# EAGLE library part FRIENDSHIP (library hgg)
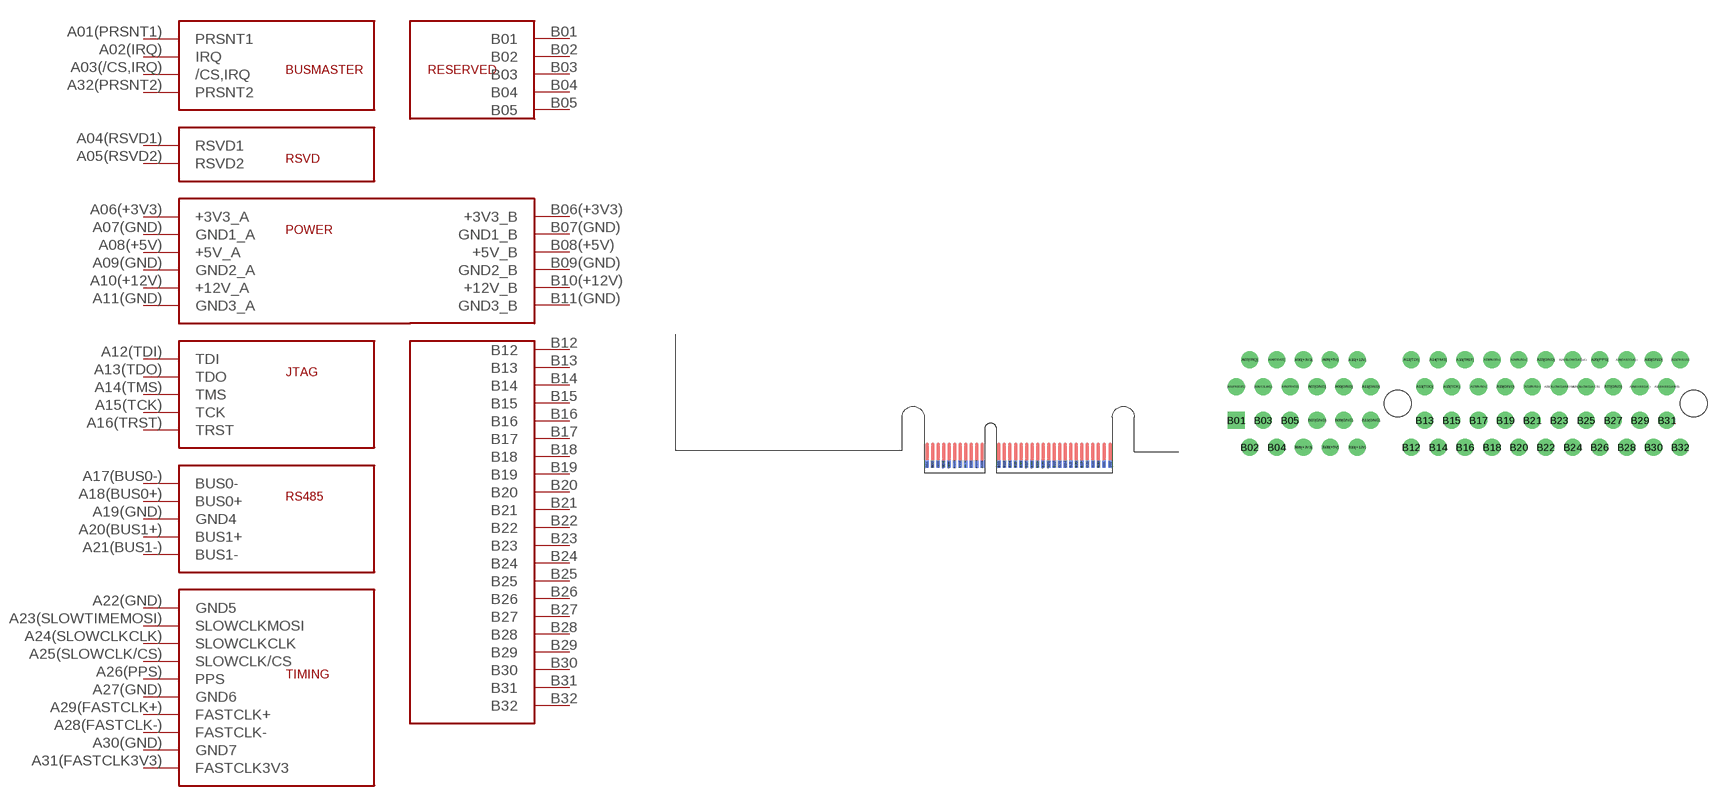
[diagram p0: symbol with the pads of FRIENDSHIP_EDGE_CONNECTOR; footprints FRIENDSHIP_EDGE_CONNECTOR, FRIENDSHIP_SLOT]

Designator prefix -

## FRIENDSHIPCONNECTOR  [FRIENDSHIP_EDGE_CONNECTOR]
A01(PRSNT1)  PRSNT1
A02(IRQ)  IRQ
A03(/CS,IRQ)  /CS,IRQ
A04(RSVD1)  RSVD1
A05(RSVD2)  RSVD2
A06(+3V3)  +3V3_A
A07(GND)  GND1_A
A08(+5V)  +5V_A
A09(GND)  GND2_A
A10(+12V)  +12V_A
A11(GND)  GND3_A
A12(TDI)  TDI
A13(TDO)  TDO
A14(TMS)  TMS
A15(TCK)  TCK
A16(TRST)  TRST
A17(BUS0-)  BUS0-
A18(BUS0+)  BUS0+
A19(GND)  GND4
A20(BUS1+)  BUS1+
A21(BUS1-)  BUS1-
A22(GND)  GND5
A23(SLOWTIMEMOSI)  SLOWCLKMOSI
A24(SLOWCLKCLK)  SLOWCLKCLK
A25(SLOWCLK/CS)  SLOWCLK/CS
A26(PPS)  PPS
A27(GND)  GND6
A28(FASTCLK-)  FASTCLK-
A29(FASTCLK+)  FASTCLK+
A30(GND)  GND7
A31(FASTCLK3V3)  FASTCLK3V3
A32(PRSNT2)  PRSNT2
B01  B01
B02  B02
B03  B03
B04  B04
B05  B05
B06(+3V3)  +3V3_B
B07(GND)  GND1_B
B08(+5V)  +5V_B
B09(GND)  GND2_B
B10(+12V)  +12V_B
B11(GND)  GND3_B
B12  B12
B13  B13
B14  B14
B15  B15
B16  B16
B17  B17
B18  B18
B19  B19
B20  B20
B21  B21
B22  B22
B23  B23
B24  B24
B25  B25
B26  B26
B27  B27
B28  B28
B29  B29
B30  B30
B31  B31
B32  B32

## FRIENDSHIPSLOT  [FRIENDSHIP_SLOT]
A01(PRSNT1)  PRSNT1
A02(IRQ)  IRQ
A03(/CS,IRQ)  /CS,IRQ
A04(RSVD1)  RSVD1
A05(RSVD2)  RSVD2
A06(+3V3)  +3V3_A
A07(GND)  GND7
A08(+5V)  +5V_A
A09(GND)  GND6
A10(+12V)  +12V_A
A11(GND)  GND5
A12(TDI)  TDI
A13(TDO)  TDO
A14(TMS)  TMS
A15(TCK)  TCK
A16(TRST)  TRST
A17(BUS0-)  BUS0-
A18(BUS0+)  BUS0+
A19(GND)  GND1_A
A20(BUS1+)  BUS1+
A21(BUS1-)  BUS1-
A22(GND)  GND2_A
A23(SLOWCLKMOSI)  SLOWCLKMOSI
A24(SLOWCLKCLK)  SLOWCLKCLK
A25(SLOWCLK/CS)  SLOWCLK/CS
A26(PPS)  PPS
A27(GND)  GND3_A
A28(FASTCLK+)  FASTCLK+
A29(FASTCLK-)  FASTCLK-
A30(GND)  GND4
A31(FASTCLK3V3)  FASTCLK3V3
A32(PRSNT2)  PRSNT2
B01  B01
B02  B02
B03  B03
B04  B04
B05  B05
B06(+3V3)  +3V3_B
B07(GND)  GND1_B
B08(+5V)  +5V_B
B09(GND)  GND2_B
B10(+12V)  +12V_B
B11(GND)  GND3_B
B12  B12
B13  B13
B14  B14
B15  B15
B16  B16
B17  B17
B18  B18
B19  B19
B20  B20
B21  B21
B22  B22
B23  B23
B24  B24
B25  B25
B26  B26
B27  B27
B28  B28
B29  B29
B30  B30
B31  B31
B32  B32

## Footprint FRIENDSHIP_EDGE_CONNECTOR (pad centres in mm)
smd 0.66 x 1.27: A01(PRSNT1) 45.5,-14.5; A02(IRQ) 46.5,-14.5; A03(/CS,IRQ) 47.5,-14.5; A04(RSVD1) 48.5,-14.5; A05(RSVD2) 49.5,-14.5; A06(+3V3) 50.5,-14.5; A07(GND) 51.5,-14.5; A08(+5V) 52.5,-14.5; A09(GND) 53.5,-14.5; A10(+12V) 54.5,-14.5; A11(GND) 55.5,-14.5; A12(TDI) 58.5,-14.5; A13(TDO) 59.5,-14.5; A14(TMS) 60.5,-14.5; A15(TCK) 61.5,-14.5; A16(TRST) 62.5,-14.5; A17(BUS0-) 63.5,-14.5; A18(BUS0+) 64.5,-14.5; A19(GND) 65.5,-14.5; A20(BUS1+) 66.5,-14.5; A21(BUS1-) 67.5,-14.5; A22(GND) 68.5,-14.5; A23(SLOWTIMEMOSI) 69.5,-14.5; A24(SLOWCLKCLK) 70.5,-14.5; A25(SLOWCLK/CS) 71.5,-14.5; A26(PPS) 72.5,-14.5; A27(GND) 73.5,-14.5; A28(FASTCLK-) 74.5,-14.5; A29(FASTCLK+) 75.5,-14.5; A30(GND) 76.5,-14.5; A31(FASTCLK3V3) 77.5,-14.5; A32(PRSNT2) 78.6,-14.5
smd 0.66 x 1.27 bottom: B01 45.5,-14.5; B02 46.5,-14.5; B03 47.5,-14.5; B04 48.5,-14.5; B05 49.5,-14.5; B06(+3V3) 50.5,-14.5; B07(GND) 51.5,-14.5; B08(+5V) 52.5,-14.5; B09(GND) 53.5,-14.5; B10(+12V) 54.5,-14.5; B11(GND) 55.5,-14.5; B12 58.5,-14.5; B13 59.5,-14.5; B14 60.5,-14.5; B15 61.5,-14.5; B16 62.5,-14.5; B17 63.5,-14.5; B18 64.5,-14.5; B19 65.5,-14.5; B20 66.5,-14.5; B21 67.5,-14.5; B22 68.5,-14.5; B23 69.5,-14.5; B24 70.5,-14.5; B25 71.5,-14.5; B26 72.5,-14.5; B27 73.5,-14.5; B28 74.5,-14.5; B29 75.5,-14.5; B30 76.5,-14.5; B31 77.5,-14.5; B32 78.6,-14.5

## Footprint FRIENDSHIP_SLOT (pad centres in mm)
drill 0.5 pad 1.27: A01(PRSNT1) 0,2.5; A02(IRQ) 1,4.5; A03(/CS,IRQ) 2,2.5; A04(RSVD1) 3,4.5; A05(RSVD2) 4,2.5; A06(+3V3) 5,4.5; A07(GND) 6,2.5; A08(+5V) 7,4.5; A09(GND) 8,2.5; A10(+12V) 9,4.5; A11(GND) 10,2.5; A12(TDI) 13,4.5; A13(TDO) 14,2.5; A14(TMS) 15,4.5; A15(TCK) 16,2.5; A16(TRST) 17,4.5; A17(BUS0-) 18,2.5; A18(BUS0+) 19,4.5; A19(GND) 20,2.5; A20(BUS1+) 21,4.5; A21(BUS1-) 22,2.5; A22(GND) 23,4.5; A23(SLOWCLKMOSI) 24,2.5; A24(SLOWCLKCLK) 25,4.5; A25(SLOWCLK/CS) 26,2.5; A26(PPS) 27,4.5; A27(GND) 28,2.5; A28(FASTCLK+) 29,4.5; A29(FASTCLK-) 30,2.5; A30(GND) 31,4.5; A31(FASTCLK3V3) 32,2.5; A32(PRSNT2) 33,4.5; B02 1,-2; B03 2,0; B04 3,-2; B05 4,0; B06(+3V3) 5,-2; B07(GND) 6,0; B08(+5V) 7,-2; B09(GND) 8,0; B10(+12V) 9,-2; B11(GND) 10,0; B12 13,-2; B13 14,0; B14 15,-2; B15 16,0; B16 17,-2; B17 18,0; B18 19,-2; B19 20,0; B20 21,-2; B21 22,0; B22 23,-2; B23 24,0; B24 25,-2; B25 26,0; B26 27,-2; B27 28,0; B28 29,-2; B29 30,0; B30 31,-2; B31 32,0; B32 33,-2
drill 0.5 pad 1.27 square: B01 0,0
hole 2 at 12,1.25
hole 2 at 34,1.25